# Altium footprint library Motion Sensors - IMUs.PcbLib: 1 footprints
Each footprint in its own frame and in the unit in brackets; x right, y up, seen from the top. Pads: shape width x height; smd on the part's side, far side on the other; paste and mask are expansions set on the pad; w line width, h text height; cw(c..) or ccw(c..) is an arc to the next point about the centre after c.
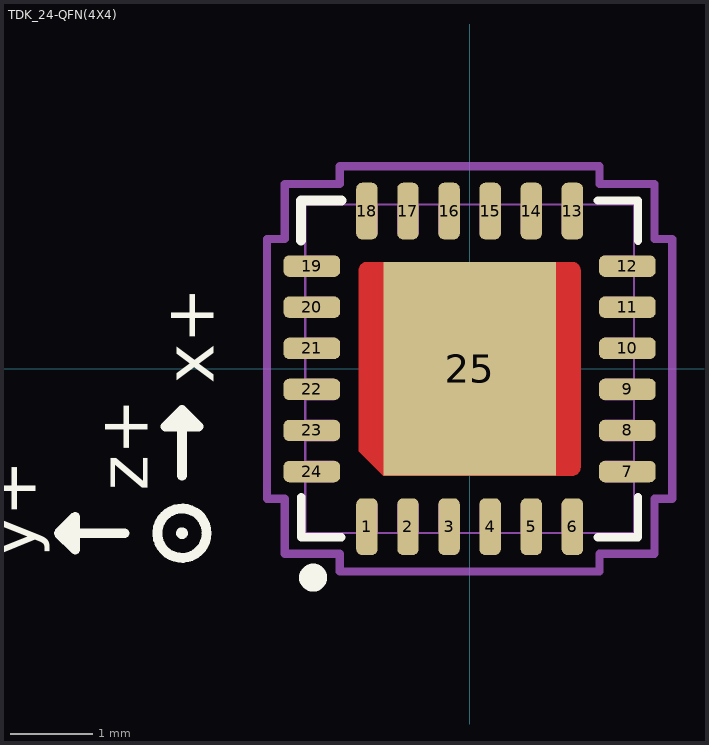
[diagram p0: the footprint, top view; thin cyan lines are the x and y axes]

## TDK_24-QFN(4X4) [mm]
height 0.95
pads (25):
  rrect54% 0.26x0.69 smd mask+0.04: 1(-1.25,-1.92) 2(-0.75,-1.92) 3(-0.25,-1.92) 4(0.25,-1.92) 5(0.75,-1.92) 6(1.25,-1.92) 13(1.25,1.92) 14(0.75,1.92) 15(0.25,1.92) 16(-0.25,1.92) 17(-0.75,1.92) 18(-1.25,1.92)
  rrect54% 0.69x0.26 smd mask+0.04: 7(1.92,-1.25) 8(1.92,-0.75) 9(1.92,-0.25) 10(1.92,0.25) 11(1.92,0.75) 12(1.92,1.25) 19(-1.92,1.25) 20(-1.92,0.75) 21(-1.92,0.25) 22(-1.92,-0.25) 23(-1.92,-0.75) 24(-1.92,-1.25)
  rect 2.1x2.6 smd paste-2.6 mask-2.6: 25(0,0)
Top Layer:
  region: 1.35,0 1.35,-1.2 1.349,-1.216 1.345,-1.231 1.339,-1.245 1.331,-1.259 1.321,-1.271 1.309,-1.281 1.295,-1.289 1.281,-1.295 1.266,-1.299 -1.05,-1.3 -1.35,-1 -1.35,1.2 -1.349,1.216 -1.345,1.231 -1.339,1.245 -1.331,1.259 -1.321,1.271 -1.309,1.281 -1.295,1.289 -1.281,1.295 -1.266,1.299 1.25,1.3 1.266,1.299 1.281,1.295 1.295,1.289 1.309,1.281 1.321,1.271 1.331,1.259 1.339,1.245 1.345,1.231 1.349,1.216 1.35,1.2
Top Overlay:
  circle w0.12: c-3.5,-2 r0.012
  circle w0.12: c-3.5,-2 r0.3
  circle w0.24: c-1.905,-2.54 r0.05
  lines w0.1: -2.05,-1.56 -2.05,-2.05 -1.56,-2.05 ; 1.56,-2.05 2.05,-2.05 2.05,-1.56 ; 1.56,2.05 2.05,2.05 2.05,1.56
  lines w0.12: -4.2,-2 -5,-2 ; -3.5,-1.3 -3.5,-0.5 ; -2.05,1.56 -2.05,2.05 -1.56,2.05 ; -5,-2 -4.8,-2.2 -4.8,-1.8 -5,-2 ; -3.5,-0.5 -3.7,-0.7 -3.3,-0.7 -3.5,-0.5
  text "y+" at -5.279,-2.284 h0.6
  text "x+" at -3.116,-0.184 h0.6
  text "z+" at -3.916,-1.484 h0.6
Top Paste:
  region: 1.16,-1.11 0.19,-1.11 0.19,-0.19 1.16,-0.19
  region: 1.16,0.19 0.19,0.19 0.19,1.11 1.16,1.11
  region: -0.19,-1.11 -1.16,-1.11 -1.16,-0.19 -0.19,-0.19
  region: -0.19,0.19 -1.16,0.19 -1.16,1.11 -0.19,1.11
Top Solder:
  region: 1.35,0 1.35,-1.2 1.349,-1.216 1.345,-1.231 1.339,-1.245 1.331,-1.259 1.321,-1.271 1.309,-1.281 1.295,-1.289 1.281,-1.295 1.266,-1.299 -1.05,-1.3 -1.35,-1 -1.35,1.2 -1.349,1.216 -1.345,1.231 -1.339,1.245 -1.331,1.259 -1.321,1.271 -1.309,1.281 -1.295,1.289 -1.281,1.295 -1.266,1.299 1.25,1.3 1.266,1.299 1.281,1.295 1.295,1.289 1.309,1.281 1.321,1.271 1.331,1.259 1.339,1.245 1.345,1.231 1.349,1.216 1.35,1.2
Mechanical 13:
  lines w0.025: -2,-2 2,-2 2,2 -2,2 -2,-2 ; -2,-1.37 -2,-1.13 -1.65,-1.13 -1.65,-1.37 -2,-1.37 ; -2,-0.87 -2,-0.63 -1.65,-0.63 -1.65,-0.87 -2,-0.87 ; -2,-0.37 -2,-0.13 -1.65,-0.13 -1.65,-0.37 -2,-0.37 ; -2,0.13 -2,0.37 -1.65,0.37 -1.65,0.13 -2,0.13 ; -2,0.63 -2,0.87 -1.65,0.87 -1.65,0.63 -2,0.63 ; -2,1.13 -2,1.37 -1.65,1.37 -1.65,1.13 -2,1.13 ; -1.37,-2 -1.37,-1.65 -1.13,-1.65 -1.13,-2 -1.37,-2 ; -1.37,1.65 -1.37,2 -1.13,2 -1.13,1.65 -1.37,1.65 ; -0.87,-2 -0.87,-1.65 -0.63,-1.65 -0.63,-2 -0.87,-2 ; -0.87,1.65 -0.63,1.65 -0.63,2 -0.87,2 -0.87,1.65 ; -0.37,-2 -0.13,-2 -0.13,-1.65 -0.37,-1.65 -0.37,-2 ; -0.37,1.65 -0.37,2 -0.13,2 -0.13,1.65 -0.37,1.65 ; 0.13,-2 0.13,-1.65 0.37,-1.65 0.37,-2 0.13,-2 ; 0.13,1.65 0.13,2 0.37,2 0.37,1.65 0.13,1.65 ; 0.63,-2 0.63,-1.65 0.87,-1.65 0.87,-2 0.63,-2 ; 0.63,1.65 0.63,2 0.87,2 0.87,1.65 0.63,1.65 ; 1.13,-2 1.37,-2 1.37,-1.65 1.13,-1.65 1.13,-2 ; 1.13,1.65 1.37,1.65 1.37,2 1.13,2 1.13,1.65 ; 1.65,-1.37 2,-1.37 2,-1.13 1.65,-1.13 1.65,-1.37 ; 1.65,-0.87 2,-0.87 2,-0.63 1.65,-0.63 1.65,-0.87 ; 1.65,-0.37 1.65,-0.13 2,-0.13 2,-0.37 1.65,-0.37 ; 1.65,0.13 1.65,0.37 2,0.37 2,0.13 1.65,0.13 ; 1.65,0.63 1.65,0.87 2,0.87 2,0.63 1.65,0.63 ; 1.65,1.13 2,1.13 2,1.37 1.65,1.37 1.65,1.13
Mechanical 15:
  circle w0.05: c0,0 r0.25
  lines w0.05: -0.35,0 0.35,0 ; 0,-0.35 0,0.35
  lines w0.1: -2.465,-1.58 -2.465,1.58 -2.25,1.58 -2.25,2.25 -1.58,2.25 -1.58,2.465 1.58,2.465 1.58,2.25 2.25,2.25 2.25,1.58 2.465,1.58 2.465,-1.58 2.25,-1.58 2.25,-2.25 1.58,-2.25 1.58,-2.465 -1.58,-2.465 -1.58,-2.25 -2.25,-2.25 -2.25,-1.58 -2.465,-1.58
3D body "QFN50P400X400X95-25.STEP": height 0.95, standoff 0, extent -2.05,-2.05 2.05,2.05